# EAGLE library part 33PIN-2.54 (library ADC-Erweiterung)
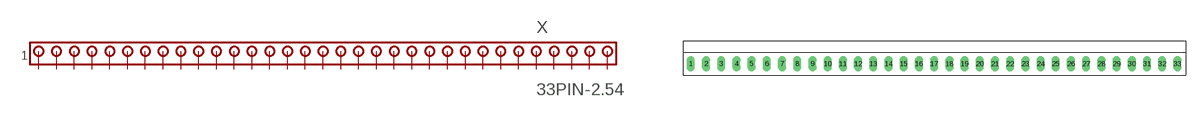
[diagram p1: symbol with the pads of 1X33; footprint 1X33]

Designator prefix X

## 33PIN-2.54  [1X33]
1  1  pas
2  2  pas
3  3  pas
4  4  pas
5  5  pas
6  6  pas
7  7  pas
8  8  pas
9  9  pas
10  10  pas
11  11  pas
12  12  pas
13  13  pas
14  14  pas
15  15  pas
16  16  pas
17  17  pas
18  18  pas
19  19  pas
20  20  pas
21  21  pas
22  22  pas
23  23  pas
24  24  pas
25  25  pas
26  26  pas
27  27  pas
28  28  pas
29  29  pas
30  30  pas
31  31  pas
32  32  pas
33  33  pas

## Footprint 1X33 (pad centres in mm)
AMP MTA connector
drill 0.8 long: 1 -39.497,0; 2 -36.957,0; 3 -34.417,0; 4 -31.877,0; 5 -29.337,0; 6 -26.797,0; 7 -24.257,0; 8 -21.717,0; 9 -19.177,0; 10 -16.637,0; 11 -14.097,0; 12 -11.557,0; 13 -9.017,0; 14 -6.477,0; 15 -3.937,0; 16 -1.397,0; 17 1.143,0; 18 3.683,0; 19 6.223,0; 20 8.763,0; 21 11.303,0; 22 13.843,0; 23 16.383,0; 24 18.923,0; 25 21.463,0; 26 24.003,0; 27 26.543,0; 28 29.083,0; 29 31.623,0; 30 34.163,0; 31 36.703,0; 32 39.243,0; 33 41.783,0